# Altium schematic symbol library AIUR-16-6R8K.SchLib: 1 symbol
Pins are listed as number, name and electrical type; pins without a type are passive.

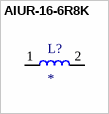
[diagram p0: symbol AIUR-16-6R8K]

## AIUR-16-6R8K
designator L?
MP: AIUR-16-6R8K; MF: {'manufacturer': u'Abracon'}; Value: *; Package: None; Price: None; Availability: Unavailable
footprint AIUR-16-6R8K
pins: 1 P$1, 2 P$2